# Altium schematic symbol library Pinheaders.SchLib: 13 symbols
Pins are listed as number, name and electrical type; pins without a type are passive.

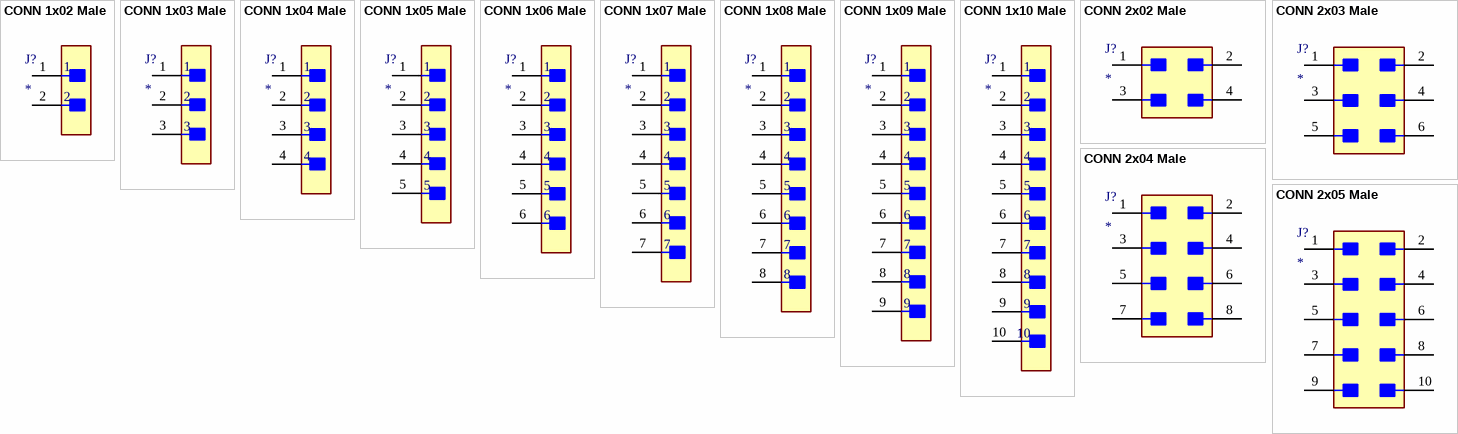
[diagram p0: symbols CONN 1x02 Male to CONN 2x05 Male]

## CONN 1x02 Male
designator J?
CONN HEADER MALE 2POS
footprint CONN 1x02 Male (CONN HEADER VERT 2POS 2.54MM)
pins: 1, 2

## CONN 1x03 Male
designator J?
CONN HEADER MALE 3POS
footprint CONN 1x03 Male (CONN HEADER VERT 3POS 2.54MM)
pins: 1, 2, 3

## CONN 1x04 Male
designator J?
CONN HEADER MALE 4POS
footprint CONN 1x04 Male (CONN HEADER VERT 4POS 2.54MM)
pins: 1, 2, 3, 4

## CONN 1x05 Male
designator J?
CONN HEADER MALE 5POS
footprint CONN 1x05 Male (CONN HEADER VERT 5POS 2.54MM)
pins: 1, 2, 3, 4, 5

## CONN 1x06 Male
designator J?
CONN HEADER MALE 6POS
footprint CONN 1x06 Male (CONN HEADER VERT 6POS 2.54MM)
pins: 1, 2, 3, 4, 5, 6

## CONN 1x07 Male
designator J?
CONN HEADER MALE 7POS
footprint CONN 1x07 Male (CONN HEADER VERT 7POS 2.54MM)
pins: 1, 2, 3, 4, 5, 6, 7

## CONN 1x08 Male
designator J?
CONN HEADER MALE 8POS
footprint CONN 1x08 Male (CONN HEADER VERT 8POS 2.54MM)
pins: 1, 2, 3, 4, 5, 6, 7, 8

## CONN 1x09 Male
designator J?
CONN HEADER MALE 9POS
footprint CONN 1x09 Male (CONN HEADER VERT 9POS 2.54MM)
pins: 1, 2, 3, 4, 5, 6, 7, 8, 9

## CONN 1x10 Male
designator J?
CONN HEADER MALE 10POS
footprint CONN 1x10 Male (CONN HEADER VERT 10POS 2.54MM)
pins: 1, 2, 3, 4, 5, 6, 7, 8, 9, 10

## CONN 2x02 Male
designator J?
CONN HEADER MALE 4POS
footprint CONN 2x02 MALE (CONN HEADER MALE 4POS)
pins: 1, 2, 3, 4

## CONN 2x03 Male
designator J?
CONN HEADER MALE 6POS
footprint CONN 2x03 MALE (CONN HEADER MALE 6POS)
pins: 1, 2, 3, 4, 5, 6

## CONN 2x04 Male
designator J?
CONN HEADER MALE 8POS
footprint CONN 2x04 MALE (CONN HEADER MALE 8POS)
pins: 1, 2, 3, 4, 5, 6, 7, 8

## CONN 2x05 Male
designator J?
CONN HEADER MALE 10POS
footprint CONN 2x05 MALE (CONN HEADER MALE 10POS)
pins: 1, 2, 3, 4, 5, 6, 7, 8, 9, 10